# Altium schematic symbol library Nichicon-RSL-Series.SchLib: 1 symbol
Pins are listed as number, name and electrical type; pins without a type are passive.

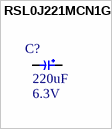
[diagram p0: symbol RSL0J221MCN1GB]

## RSL0J221MCN1GB
designator C?  value 220uF  Value2: 6.3V  (hidden comment: RSL0J221MCN1GB)
220 µF 6.3 V Aluminum - Polymer Capacitors Radial, Can - SMD 18mOhm 2000 Hrs @ 105°C; Type: RSL0J221MCN1GB
footprint RSL_6.3X4.2_C
pins: N, P